# Altium footprint library Passive.PcbLib: 74 footprints (part 4 of 5)
Each footprint in its own frame and in the unit in brackets; x right, y up, seen from the top. Pads: shape width x height; smd on the part's side, far side on the other; paste and mask are expansions set on the pad; w line width, h text height; cw(c..) or ccw(c..) is an arc to the next point about the centre after c.
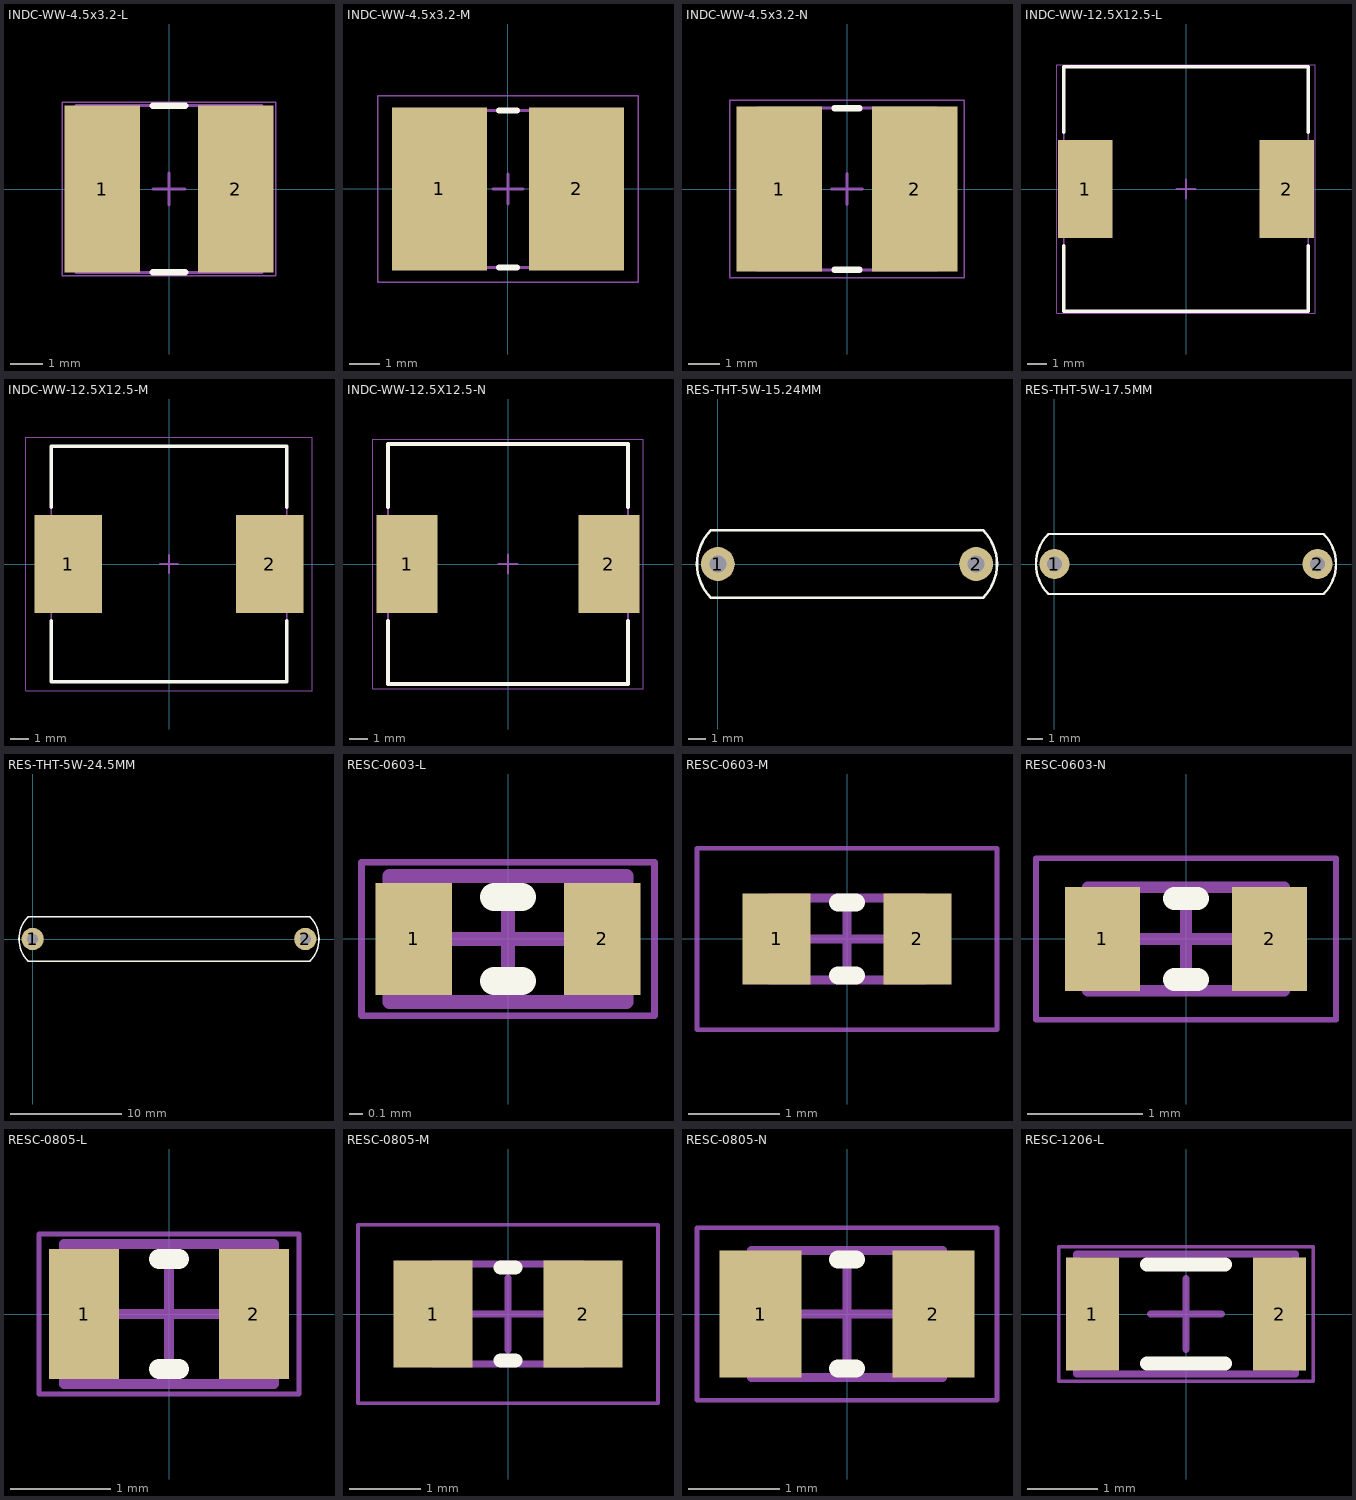
[diagram p3: the footprints below, top view; thin cyan lines are the x and y axes]

## INDC-WW-4.5x3.2-L [mm] "Precision Wire Wound Inductor, 2-Leads, Body 5.80x5.20mm, IPC High Density"
height 3.2
pads (2):
  rect 2.35x5.2 smd: 1(-2.075,0) 2(2.075,0)
Top Overlay:
  lines w0.2: -0.5,-2.6 0.5,-2.6 ; -0.5,2.6 0.5,2.6
Mechanical 13:
  lines w0.1: -2.9,-2.6 2.9,-2.6 2.9,2.6 -2.9,2.6 -2.9,-2.6
Mechanical 15:
  lines w0.05: -3.325,-2.7 3.325,-2.7 3.325,2.7 -3.325,2.7 -3.325,-2.7
  lines w0.1: -0.5,0 0.5,0 ; 0,-0.5 0,0.5
3D body "INDC-WW-4.5x3.2-L.step": height 3.3, standoff 0, extent -3,-2.6 3,2.6

## INDC-WW-4.5x3.2-M [mm] "Precision Wire Wound Inductor, 2-Leads, Body 5.80x5.20mm, IPC Low Density"
height 3.2
pads (2):
  rect 3.15x5.4 smd: 1(-2.275,0) 2(2.275,0)
Top Overlay:
  lines w0.2: -0.3,-2.6 0.3,-2.6 ; -0.3,2.6 0.3,2.6
Mechanical 13:
  lines w0.1: -2.9,-2.6 -2.9,2.6 2.9,2.6 2.9,-2.6 -2.9,-2.6
Mechanical 15:
  lines w0.05: -4.325,-3.1 -4.325,3.1 4.325,3.1 4.325,-3.1 -4.325,-3.1
  lines w0.1: -0.5,0 0.5,0 ; 0,-0.5 0,0.5
3D body "INDC-.step": height 3.3, standoff 0, extent -3,-2.6 3,2.6

## INDC-WW-4.5x3.2-N [mm] "Precision Wire Wound Inductor, 2-Leads, Body 5.80x5.20mm, IPC Medium Density"
height 3.2
pads (2):
  rect 2.75x5.3 smd: 1(-2.175,0) 2(2.175,0)
Top Overlay:
  lines w0.2: -0.4,-2.6 0.4,-2.6 ; -0.4,2.6 0.4,2.6
Mechanical 13:
  lines w0.1: -2.9,-2.6 -2.9,2.6 2.9,2.6 2.9,-2.6 -2.9,-2.6
Mechanical 15:
  lines w0.05: -3.775,-2.85 -3.775,2.85 3.775,2.85 3.775,-2.85 -3.775,-2.85
  lines w0.1: -0.5,0 0.5,0 ; 0,-0.5 0,0.5
3D body "INDC-WW-4.5x3.2-N.step": height 3.3, standoff 0, extent -3,-2.6 3,2.6

## INDC-WW-12.5X12.5-L [mm] "Precision Wire Wound Inductor, 2-Leads, Body 12,65x12,65mm, IPC High Density"
height 8
pads (2):
  rect 2.85x5.15 smd: 1(-5.275,0) 2(5.275,0)
Top Overlay:
  lines w0.2: -6.4,-2.975 -6.4,-6.4 6.4,-6.4 6.4,-2.975 ; -6.4,2.975 -6.4,6.4 6.4,6.4 6.4,2.975
Mechanical 13:
  lines w0.1: -6.4,-6.4 -6.4,6.4 6.4,6.4 6.4,-6.4 -6.4,-6.4
Mechanical 15:
  lines w0.05: -6.775,-6.5 -6.775,6.5 6.775,6.5 6.775,-6.5 -6.775,-6.5
  lines w0.1: -0.5,0 0.5,0 ; 0,-0.5 0,0.5
3D body "INDC-WW-12.5X12.5-L.step": height 8.1, standoff 0, extent -6.425,-6.325 6.425,6.325

## INDC-WW-12.5X12.5-M [mm] "Precision Wire Wound Inductor, 2-Leads, Body 12,65x12,65mm, IPC Low Density"
height 8
pads (2):
  rect 3.65x5.35 smd: 1(-5.475,0) 2(5.475,0)
Top Overlay:
  lines w0.2: -6.4,-3.075 -6.4,-6.4 6.4,-6.4 6.4,-3.075 ; -6.4,3.075 -6.4,6.4 6.4,6.4 6.4,3.075
Mechanical 13:
  lines w0.1: -6.4,-6.4 6.4,-6.4 6.4,6.4 -6.4,6.4 -6.4,-6.4
Mechanical 15:
  lines w0.05: -7.775,-6.9 7.775,-6.9 7.775,6.9 -7.775,6.9 -7.775,-6.9
  lines w0.1: -0.5,0 0.5,0 ; 0,-0.5 0,0.5
3D body "INDC-WW-12.5X12.5-M.step": height 8.1, standoff 0, extent -6.425,-6.325 6.425,6.325

## INDC-WW-12.5X12.5-N [mm] "Precision Wire Wound Inductor, 2-Leads, Body 12,65x12,65mm, IPC Medium Density"
height 8
pads (2):
  rect 3.25x5.25 smd: 1(-5.375,0) 2(5.375,0)
Top Overlay:
  lines w0.2: -6.4,-3.025 -6.4,-6.4 6.4,-6.4 6.4,-3.025 ; -6.4,3.025 -6.4,6.4 6.4,6.4 6.4,3.025
Mechanical 13:
  lines w0.1: -6.4,-6.4 -6.4,6.4 6.4,6.4 6.4,-6.4 -6.4,-6.4
Mechanical 15:
  lines w0.05: -7.225,-6.65 -7.225,6.65 7.225,6.65 7.225,-6.65 -7.225,-6.65
  lines w0.1: -0.5,0 0.5,0 ; 0,-0.5 0,0.5
3D body "INDC-WW-12.5X12.5-N.step": height 8.1, standoff 0, extent -6.425,-6.325 6.425,6.325

## RES-THT-5W-15.24MM [mm]
pads (2):
  round 2 hole 1: 1(0,0) 2(15.24,0)
Top Overlay:
  lines w0.15: -0.4,-2 cw(c1.6,0) -0.4,2 15.64,2 cw(c13.64,0) 15.64,-2 -0.4,-2
3D body "CCF60_10K0_bend.STEP": height 3.62, standoff -3.6, extent -0.365,-1.875 15.565,1.875

## RES-THT-5W-17.5MM [mm]
pads (2):
  round 2 hole 1: 1(0,0) 2(17.5,0)
Top Overlay:
  lines w0.15: -0.4,-2 cw(c1.6,0) -0.4,2 17.9,2 cw(c15.9,0) 17.9,-2 -0.4,-2

## RES-THT-5W-24.5MM [mm]
pads (2):
  round 2 hole 1: 1(0,0) 2(24.5,0)
Top Overlay:
  lines w0.15: -0.4,-2 cw(c1.6,0) -0.4,2 24.9,2 cw(c22.9,0) 24.9,-2 -0.4,-2

## RESC-0603-L [mm] "Chip Resistor, 2-Leads, Body 1.60x0.80mm, IPC High Density"
height 0.45
pads (2):
  rect 0.55x0.8 smd: 1(-0.675,0) 2(0.675,0)
Top Overlay:
  lines w0.2: -0.1,-0.3 0.1,-0.3 ; -0.1,0.3 0.1,0.3
Mechanical 13:
  lines w0.1: -0.85,-0.45 0.85,-0.45 0.85,0.45 -0.85,0.45 -0.85,-0.45
Mechanical 15:
  lines w0.05: -1.05,-0.55 1.05,-0.55 1.05,0.55 -1.05,0.55 -1.05,-0.55
  lines w0.1: -0.45,0 0.45,0 ; 0,-0.45 0,0.45
3D body "RESC-0603-L.step": height 0.45, standoff 0, extent -0.85,-0.45 0.85,0.45

## RESC-0603-M [mm] "Chip Resistor, 2-Leads, Body 1.60x0.80mm, IPC Low Density"
height 0.45
pads (2):
  rect 0.75x1 smd: 1(-0.775,0) 2(0.775,0)
Top Overlay:
  lines w0.2: -0.1,-0.4 0.1,-0.4 ; -0.1,0.4 0.1,0.4
Mechanical 13:
  lines w0.1: -0.85,-0.45 -0.85,0.45 0.85,0.45 0.85,-0.45 -0.85,-0.45
Mechanical 15:
  lines w0.05: -1.65,-1 -1.65,1 1.65,1 1.65,-1 -1.65,-1
  lines w0.1: -0.45,0 0.45,0 ; 0,-0.45 0,0.45
3D body "RESC-0603-M.step": height 0.45, standoff 0, extent -0.85,-0.45 0.85,0.45

## RESC-0603-N [mm] "Chip Resistor, 2-Leads, Body 1.60x0.80mm, IPC Medium Density"
height 0.45
pads (2):
  rect 0.65x0.9 smd: 1(-0.725,0) 2(0.725,0)
Top Overlay:
  lines w0.2: -0.1,-0.35 0.1,-0.35 ; -0.1,0.35 0.1,0.35
Mechanical 13:
  lines w0.1: -0.85,-0.45 -0.85,0.45 0.85,0.45 0.85,-0.45 -0.85,-0.45
Mechanical 15:
  lines w0.05: -1.3,-0.7 -1.3,0.7 1.3,0.7 1.3,-0.7 -1.3,-0.7
  lines w0.1: -0.45,0 0.45,0 ; 0,-0.45 0,0.45
3D body "RESC-0603-N.step": height 0.45, standoff 0, extent -0.85,-0.45 0.85,0.45

## RESC-0805-L [mm] "Chip Resistor, 2-Leads, Body 2.00x1.30mm, IPC High Density"
height 0.6
pads (2):
  rect 0.7x1.3 smd: 1(-0.85,0) 2(0.85,0)
Top Overlay:
  lines w0.2: -0.1,-0.55 0.1,-0.55 ; -0.1,0.55 0.1,0.55
Mechanical 13:
  lines w0.1: -1.05,-0.7 1.05,-0.7 1.05,0.7 -1.05,0.7 -1.05,-0.7
Mechanical 15:
  lines w0.05: -1.3,-0.8 1.3,-0.8 1.3,0.8 -1.3,0.8 -1.3,-0.8
  lines w0.1: -0.5,0 0.5,0 ; 0,-0.5 0,0.5
3D body "RESC-0805-L.step": height 0.6, standoff 0, extent -1.05,-0.7 1.05,0.7

## RESC-0805-M [mm] "Chip Resistor, 2-Leads, Body 2.00x1.30mm, IPC Low Density"
height 0.6
pads (2):
  rect 1.1x1.5 smd: 1(-1.05,0) 2(1.05,0)
Top Overlay:
  lines w0.2: -0.1,-0.65 0.1,-0.65 ; -0.1,0.65 0.1,0.65
Mechanical 13:
  lines w0.1: -1.05,-0.7 -1.05,0.7 1.05,0.7 1.05,-0.7 -1.05,-0.7
Mechanical 15:
  lines w0.05: -2.1,-1.25 -2.1,1.25 2.1,1.25 2.1,-1.25 -2.1,-1.25
  lines w0.1: -0.5,0 0.5,0 ; 0,-0.5 0,0.5
3D body "RESC-0805-M.step": height 0.6, standoff 0, extent -1.05,-0.7 1.05,0.7

## RESC-0805-N [mm] "Chip Resistor, 2-Leads, Body 2.00x1.30mm, IPC Medium Density"
height 0.6
pads (2):
  rect 0.9x1.4 smd: 1(-0.95,0) 2(0.95,0)
Top Overlay:
  lines w0.2: -0.1,-0.6 0.1,-0.6 ; -0.1,0.6 0.1,0.6
Mechanical 13:
  lines w0.1: -1.05,-0.7 -1.05,0.7 1.05,0.7 1.05,-0.7 -1.05,-0.7
Mechanical 15:
  lines w0.05: -1.65,-0.95 -1.65,0.95 1.65,0.95 1.65,-0.95 -1.65,-0.95
  lines w0.1: -0.5,0 0.5,0 ; 0,-0.5 0,0.5
3D body "RESC-0805-N.step": height 0.6, standoff 0, extent -1.05,-0.7 1.05,0.7

## RESC-1206-L [mm] "Chip Resistor, 2-Leads, Body 3.05x1.60mm, IPC High Density"
height 0.6
pads (2):
  rect 0.75x1.6 smd: 1(-1.325,0) 2(1.325,0)
Top Overlay:
  lines w0.2: -0.55,-0.7 0.55,-0.7 ; -0.55,0.7 0.55,0.7
Mechanical 13:
  lines w0.1: -1.55,-0.85 -1.55,0.85 1.55,0.85 1.55,-0.85 -1.55,-0.85
Mechanical 15:
  lines w0.05: -1.8,-0.95 -1.8,0.95 1.8,0.95 1.8,-0.95 -1.8,-0.95
  lines w0.1: -0.5,0 0.5,0 ; 0,-0.5 0,0.5
3D body "RESC-1206-L.step": height 0.6, standoff 0, extent -1.55,-0.85 1.55,0.85